# Altium schematic symbol library LD1117S33CTR.SchLib: 1 symbol
Pins are listed as number, name and electrical type; pins without a type are passive.

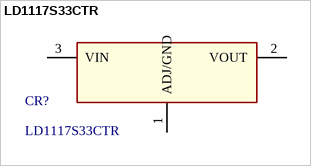
[diagram p0: symbol LD1117S33CTR]

## LD1117S33CTR
designator CR?
Adjustable and fixed low drop positive voltage regulator; Manufacturer_Name: STMicroelectronics; Copyright: Copyright (C) 2026 Ultra Librarian. All rights reserved.; Manufacturer_Part_Number: LD1117S33CTR; RefDes: RefDes; Type: Type
footprint SOT-223_STM
pins: 1 ADJ/GND (power), 2 VOUT (power), 3 VIN (power)